# Altium schematic symbol library AEIC2631.SchLib: 1 symbol
Pins are listed as number, name and electrical type; pins without a type are passive.

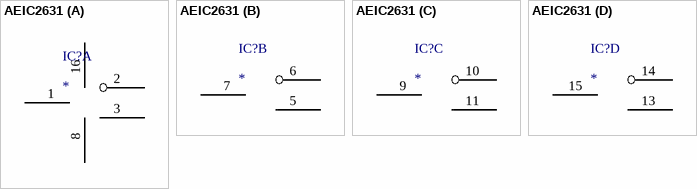
[diagram p0: symbol AEIC2631]

## AEIC2631
designator IC?
footprint SO-16
part A pins: 1, 2, 3, 8 (power), 16 (power)
part B pins: 5, 6, 7
part C pins: 9, 10, 11
part D pins: 13, 14, 15